# EAGLE library part TS7001 (library ProjectFromKIKS)
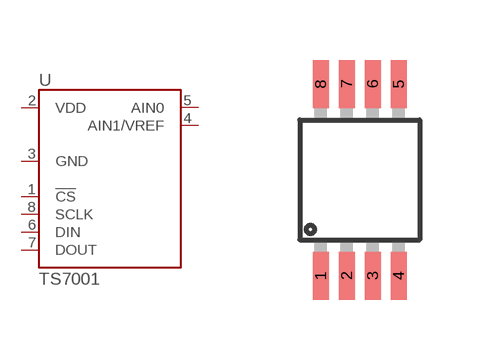
[diagram p9: symbol with the pads of MSOP8; footprint MSOP8]

Designator prefix U

## TS7001  [MSOP8]
1  !CS
2  VDD
3  GND
4  AIN1/VREF
5  AIN0
6  DIN
7  DOUT
8  SCLK

## Footprint MSOP8 (pad centres in mm)
smd 0.4 x 1.2: 1 -0.975,-2.4; 2 -0.325,-2.4; 3 0.325,-2.4; 4 0.975,-2.4; 5 0.975,2.4; 6 0.325,2.4; 7 -0.325,2.4; 8 -0.975,2.4